# EAGLE library part PS_TPS82085 (library parts_v26)
TEXAS INSTRUMENTS - TPS82085SILR - DC/DC CONV, SYNC BUCK, 2.4MHZ, USIP-8 Source: Datasheet <http://www.ti.com/lit/ds/symlink/tps82084.pdf>
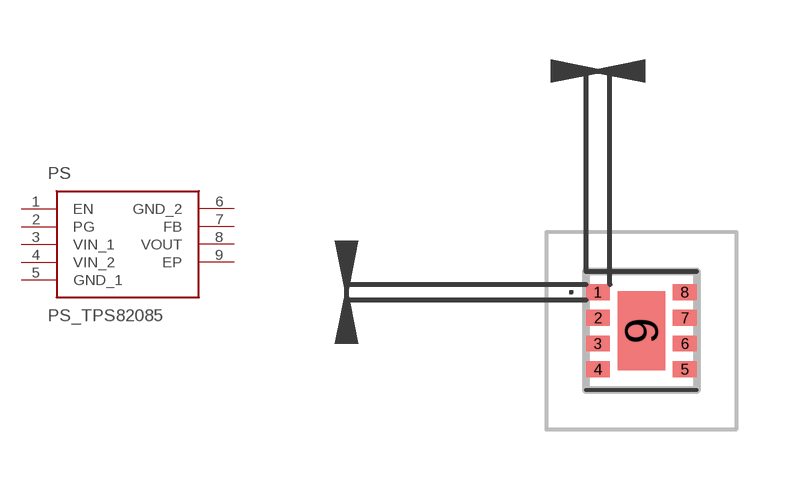
[diagram p2: symbol with the pads of TPS82085; footprint TPS82085]

Designator prefix PS

## PS_TPS82085 (DESCRIPTION: TEXAS INSTRUMENTS - TPS82085SILR - DC/DC CONV, SYNC BUCK, 2.4MHZ, USIP-8; HEIGHT: 1.33mm; MANUFACTURER_NAME: Texas Instruments; MANUFACTURER_PART_NUMBER: TPS82085SILR; MOUSER_PART_NUMBER: 595-TPS82085SILR)  [TPS82085]
1  EN
2  PG
3  VIN_1
4  VIN_2
5  GND_1
6  GND_2
7  FB
8  VOUT
9  EP

## Footprint TPS82085 (pad centres in mm)
SIL0008C_1
smd 0.6 x 0.4: 1 -1.1,0.975; 2 -1.1,0.325; 3 -1.1,-0.325; 4 -1.1,-0.975; 5 1.1,-0.975; 6 1.1,-0.325; 7 1.1,0.325; 8 1.1,0.975
smd 1.2 x 2: 9 0,0